# Altium schematic symbol library WE-PD.SchLib: 360 symbols (part 4 of 7)
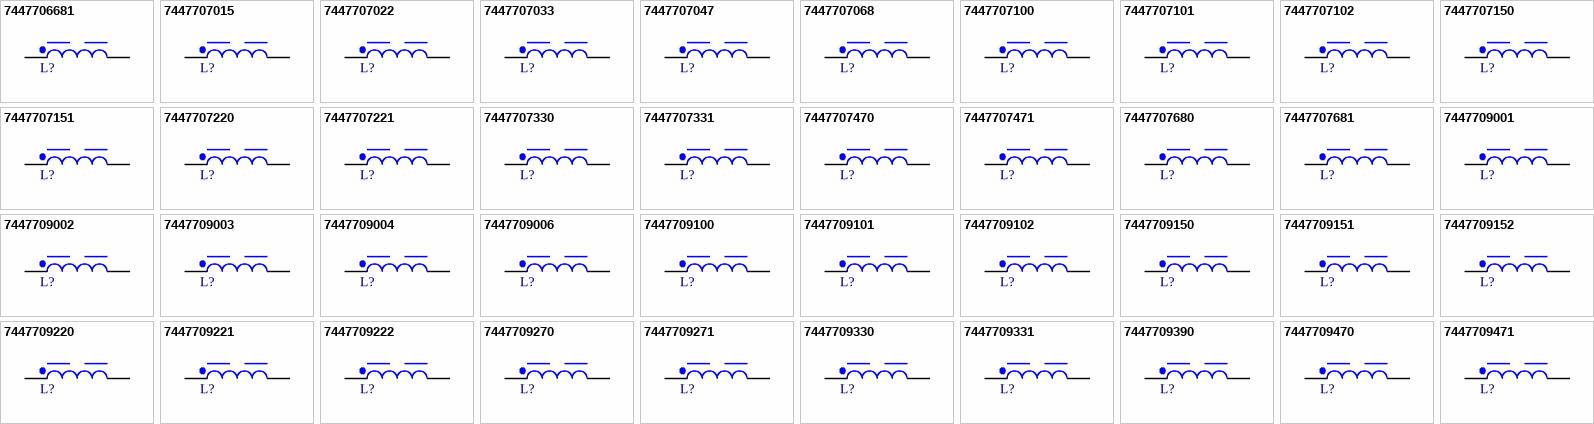
[diagram p11: symbols 7447706681 to 7447709471]

## 7447707101
designator L?, comment 100uH, 2.1A  (value not drawn)
WE-PD SMT Power Inductor, size 1280P, 100uH, 2.1A, 120mOhm; Manufacturer Part Number: 7447707101; Manufacturer: Wurth Elektronik; DC Resistance: 105mOhm; Saturation Current: 3.5A; Self Resonant Frequency: 4.3MHz; Type: Performance; Category: Power Inductors; Match Code: WE-PD; ComponentLink1Description: Website Link; ComponentLink1URL: https://www.we-online.com/redexpert/article/7447707101?ad; ComponentLink2Description: Datasheet Link; ComponentLink2URL: https://www.we-online.com/redexpert/spec/7447707101?ad; Mount: Surface Mount; Operating Temperature Max: 150°C; Operating Temperature Min: -40°C; Packaging: Tape and Reel; Case/Size Code: 1280P; Length: 12mm; Width: 12mm; Height: 8mm; DC Resistance Max: 120mOhm; Inductance: 100uH; Rated Current: 2.1A
footprint WE-PD_1280P
simulation model 1280_7447707101_100u
pins: 1, 2

## 7447707102
designator L?, comment 1000uH, 0.66A  (value not drawn)
WE-PD SMT Power Inductor, size 1280P, 1000uH, 0.66A, 1090mOhm; Manufacturer Part Number: 7447707102; Manufacturer: Wurth Elektronik; DC Resistance: 985mOhm; Saturation Current: 1.1A; Self Resonant Frequency: 1.2MHz; Type: Performance; Category: Power Inductors; Match Code: WE-PD; ComponentLink1Description: Website Link; ComponentLink1URL: https://www.we-online.com/redexpert/article/7447707102?ad; ComponentLink2Description: Datasheet Link; ComponentLink2URL: https://www.we-online.com/redexpert/spec/7447707102?ad; Mount: Surface Mount; Operating Temperature Max: 150°C; Operating Temperature Min: -40°C; Packaging: Tape and Reel; Case/Size Code: 1280P; Length: 12mm; Width: 12mm; Height: 8mm; DC Resistance Max: 1090mOhm; Inductance: 1000uH; Rated Current: 0.66A
footprint WE-PD_1280P
simulation model 1280_7447707102_1000u
pins: 1, 2

## 7447707150
designator L?, comment 15uH, 4.7A  (value not drawn)
WE-PD SMT Power Inductor, size 1280P, 15uH, 4.7A, 26.5mOhm; Manufacturer Part Number: 7447707150; Manufacturer: Wurth Elektronik; DC Resistance: 23mOhm; Saturation Current: 9A; Self Resonant Frequency: 13.2MHz; Type: Performance; Category: Power Inductors; Match Code: WE-PD; ComponentLink1Description: Website Link; ComponentLink1URL: https://www.we-online.com/redexpert/article/7447707150?ad; ComponentLink2Description: Datasheet Link; ComponentLink2URL: https://www.we-online.com/redexpert/spec/7447707150?ad; Mount: Surface Mount; Operating Temperature Max: 150°C; Operating Temperature Min: -40°C; Packaging: Tape and Reel; Case/Size Code: 1280P; Length: 12mm; Width: 12mm; Height: 8mm; DC Resistance Max: 26.5mOhm; Inductance: 15uH; Rated Current: 4.7A
footprint WE-PD_1280P
simulation model 1280_7447707150_15u
pins: 1, 2

## 7447707151
designator L?, comment 150uH, 1.65A  (value not drawn)
WE-PD SMT Power Inductor, size 1280P, 150uH, 1.65A, 190mOhm; Manufacturer Part Number: 7447707151; Manufacturer: Wurth Elektronik; DC Resistance: 165mOhm; Saturation Current: 2.8A; Self Resonant Frequency: 3.5MHz; Type: Performance; Category: Power Inductors; Match Code: WE-PD; ComponentLink1Description: Website Link; ComponentLink1URL: https://www.we-online.com/redexpert/article/7447707151?ad; ComponentLink2Description: Datasheet Link; ComponentLink2URL: https://www.we-online.com/redexpert/spec/7447707151?ad; Mount: Surface Mount; Operating Temperature Max: 150°C; Operating Temperature Min: -40°C; Packaging: Tape and Reel; Case/Size Code: 1280P; Length: 12mm; Width: 12mm; Height: 8mm; DC Resistance Max: 190mOhm; Inductance: 150uH; Rated Current: 1.65A
footprint WE-PD_1280P
simulation model 1280_7447707151_150u
pins: 1, 2

## 7447707220
designator L?, comment 22uH, 4A  (value not drawn)
WE-PD SMT Power Inductor, size 1280P, 22uH, 4A, 36mOhm; Manufacturer Part Number: 7447707220; Manufacturer: Wurth Elektronik; DC Resistance: 31.5mOhm; Saturation Current: 7.4A; Self Resonant Frequency: 10.2MHz; Type: Performance; Category: Power Inductors; Match Code: WE-PD; ComponentLink1Description: Website Link; ComponentLink1URL: https://www.we-online.com/redexpert/article/7447707220?ad; ComponentLink2Description: Datasheet Link; ComponentLink2URL: https://www.we-online.com/redexpert/spec/7447707220?ad; Mount: Surface Mount; Operating Temperature Max: 150°C; Operating Temperature Min: -40°C; Packaging: Tape and Reel; Case/Size Code: 1280P; Length: 12mm; Width: 12mm; Height: 8mm; DC Resistance Max: 36mOhm; Inductance: 22uH; Rated Current: 4A
footprint WE-PD_1280P
simulation model 1280_7447707220_22u
pins: 1, 2

## 7447707221
designator L?, comment 220uH, 1.35A  (value not drawn)
WE-PD SMT Power Inductor, size 1280P, 220uH, 1.35A, 265mOhm; Manufacturer Part Number: 7447707221; Manufacturer: Wurth Elektronik; DC Resistance: 240mOhm; Saturation Current: 2.35A; Self Resonant Frequency: 2.9MHz; Type: Performance; Category: Power Inductors; Match Code: WE-PD; ComponentLink1Description: Website Link; ComponentLink1URL: https://www.we-online.com/redexpert/article/7447707221?ad; ComponentLink2Description: Datasheet Link; ComponentLink2URL: https://www.we-online.com/redexpert/spec/7447707221?ad; Mount: Surface Mount; Operating Temperature Max: 150°C; Operating Temperature Min: -40°C; Packaging: Tape and Reel; Case/Size Code: 1280P; Length: 12mm; Width: 12mm; Height: 8mm; DC Resistance Max: 265mOhm; Inductance: 220uH; Rated Current: 1.35A
footprint WE-PD_1280P
simulation model 1280_7447707221_220u
pins: 1, 2

## 7447707330
designator L?, comment 33uH, 3.15A  (value not drawn)
WE-PD SMT Power Inductor, size 1280P, 33uH, 3.15A, 53mOhm; Manufacturer Part Number: 7447707330; Manufacturer: Wurth Elektronik; DC Resistance: 46.5mOhm; Saturation Current: 6.1A; Self Resonant Frequency: 8.3MHz; Type: Performance; Category: Power Inductors; Match Code: WE-PD; ComponentLink1Description: Website Link; ComponentLink1URL: https://www.we-online.com/redexpert/article/7447707330?ad; ComponentLink2Description: Datasheet Link; ComponentLink2URL: https://www.we-online.com/redexpert/spec/7447707330?ad; Mount: Surface Mount; Operating Temperature Max: 150°C; Operating Temperature Min: -40°C; Packaging: Tape and Reel; Case/Size Code: 1280P; Length: 12mm; Width: 12mm; Height: 8mm; DC Resistance Max: 53mOhm; Inductance: 33uH; Rated Current: 3.15A
footprint WE-PD_1280P
simulation model 1280_7447707330_33u
pins: 1, 2

## 7447707331
designator L?, comment 330uH, 1.08A  (value not drawn)
WE-PD SMT Power Inductor, size 1280P, 330uH, 1.08A, 410mOhm; Manufacturer Part Number: 7447707331; Manufacturer: Wurth Elektronik; DC Resistance: 370mOhm; Saturation Current: 1.9A; Self Resonant Frequency: 2.1MHz; Type: Performance; Category: Power Inductors; Match Code: WE-PD; ComponentLink1Description: Website Link; ComponentLink1URL: https://www.we-online.com/redexpert/article/7447707331?ad; ComponentLink2Description: Datasheet Link; ComponentLink2URL: https://www.we-online.com/redexpert/spec/7447707331?ad; Mount: Surface Mount; Operating Temperature Max: 150°C; Operating Temperature Min: -40°C; Packaging: Tape and Reel; Case/Size Code: 1280P; Length: 12mm; Width: 12mm; Height: 8mm; DC Resistance Max: 410mOhm; Inductance: 330uH; Rated Current: 1.08A
footprint WE-PD_1280P
simulation model 1280_7447707331_330u
pins: 1, 2

## 7447707470
designator L?, comment 47uH, 2.9A  (value not drawn)
WE-PD SMT Power Inductor, size 1280P, 47uH, 2.9A, 63mOhm; Manufacturer Part Number: 7447707470; Manufacturer: Wurth Elektronik; DC Resistance: 55mOhm; Saturation Current: 5.1A; Self Resonant Frequency: 7.2MHz; Type: Performance; Category: Power Inductors; Match Code: WE-PD; ComponentLink1Description: Website Link; ComponentLink1URL: https://www.we-online.com/redexpert/article/7447707470?ad; ComponentLink2Description: Datasheet Link; ComponentLink2URL: https://www.we-online.com/redexpert/spec/7447707470?ad; Mount: Surface Mount; Operating Temperature Max: 150°C; Operating Temperature Min: -40°C; Packaging: Tape and Reel; Case/Size Code: 1280P; Length: 12mm; Width: 12mm; Height: 8mm; DC Resistance Max: 63mOhm; Inductance: 47uH; Rated Current: 2.9A
footprint WE-PD_1280P
simulation model 1280_7447707470_47u
pins: 1, 2

## 7447707471
designator L?, comment 470uH, 0.93A  (value not drawn)
WE-PD SMT Power Inductor, size 1280P, 470uH, 0.93A, 540mOhm; Manufacturer Part Number: 7447707471; Manufacturer: Wurth Elektronik; DC Resistance: 490mOhm; Saturation Current: 1.6A; Self Resonant Frequency: 1.9MHz; Type: Performance; Category: Power Inductors; Match Code: WE-PD; ComponentLink1Description: Website Link; ComponentLink1URL: https://www.we-online.com/redexpert/article/7447707471?ad; ComponentLink2Description: Datasheet Link; ComponentLink2URL: https://www.we-online.com/redexpert/spec/7447707471?ad; Mount: Surface Mount; Operating Temperature Max: 150°C; Operating Temperature Min: -40°C; Packaging: Tape and Reel; Case/Size Code: 1280P; Length: 12mm; Width: 12mm; Height: 8mm; DC Resistance Max: 540mOhm; Inductance: 470uH; Rated Current: 0.93A
footprint WE-PD_1280P
simulation model 1280_7447707471_470u
pins: 1, 2

## 7447707680
designator L?, comment 68uH, 2.45A  (value not drawn)
WE-PD SMT Power Inductor, size 1280P, 68uH, 2.45A, 90mOhm; Manufacturer Part Number: 7447707680; Manufacturer: Wurth Elektronik; DC Resistance: 78mOhm; Saturation Current: 4.2A; Self Resonant Frequency: 5.5MHz; Type: Performance; Category: Power Inductors; Match Code: WE-PD; ComponentLink1Description: Website Link; ComponentLink1URL: https://www.we-online.com/redexpert/article/7447707680?ad; ComponentLink2Description: Datasheet Link; ComponentLink2URL: https://www.we-online.com/redexpert/spec/7447707680?ad; Mount: Surface Mount; Operating Temperature Max: 150°C; Operating Temperature Min: -40°C; Packaging: Tape and Reel; Case/Size Code: 1280P; Length: 12mm; Width: 12mm; Height: 8mm; DC Resistance Max: 90mOhm; Inductance: 68uH; Rated Current: 2.45A
footprint WE-PD_1280P
simulation model 1280_7447707680_68u
pins: 1, 2

## 7447707681
designator L?, comment 680uH, 0.78A  (value not drawn)
WE-PD SMT Power Inductor, size 1280P, 680uH, 0.78A, 770mOhm; Manufacturer Part Number: 7447707681; Manufacturer: Wurth Elektronik; DC Resistance: 700mOhm; Saturation Current: 1.3A; Self Resonant Frequency: 1.5MHz; Type: Performance; Category: Power Inductors; Match Code: WE-PD; ComponentLink1Description: Website Link; ComponentLink1URL: https://www.we-online.com/redexpert/article/7447707681?ad; ComponentLink2Description: Datasheet Link; ComponentLink2URL: https://www.we-online.com/redexpert/spec/7447707681?ad; Mount: Surface Mount; Operating Temperature Max: 150°C; Operating Temperature Min: -40°C; Packaging: Tape and Reel; Case/Size Code: 1280P; Length: 12mm; Width: 12mm; Height: 8mm; DC Resistance Max: 770mOhm; Inductance: 680uH; Rated Current: 0.78A
footprint WE-PD_1280P
simulation model 1280_7447707681_680u
pins: 1, 2

## 7447709001
designator L?, comment 1uH, 13A  (value not drawn)
WE-PD SMT Power Inductor, size 1210, 1uH, 13A, 6mOhm; Manufacturer Part Number: 7447709001; Manufacturer: Wurth Elektronik; Case/Size Code: 1210; DC Resistance: 4mOhm; Saturation Current: 25A; Self Resonant Frequency: 120MHz; Type: Standard; Category: Power Inductors; Match Code: WE-PD; ComponentLink1Description: Website Link; ComponentLink1URL: https://www.we-online.com/redexpert/article/7447709001?ad; ComponentLink2Description: Datasheet Link; ComponentLink2URL: https://www.we-online.com/redexpert/spec/7447709001?ad; Mount: Surface Mount; Operating Temperature Max: 125°C; Operating Temperature Min: -40°C; Packaging: Tape and Reel; Length: 12mm; Width: 12mm; Height: 10mm; DC Resistance Max: 6mOhm; Inductance: 1uH; Rated Current: 13A
footprint WE-PD_1210
simulation model 1210_7447709001_1u
pins: 1, 2

## 7447709002
designator L?, comment 2.2uH, 11.5A  (value not drawn)
WE-PD SMT Power Inductor, size 1210, 2.2uH, 11.5A, 6mOhm; Manufacturer Part Number: 7447709002; Manufacturer: Wurth Elektronik; Case/Size Code: 1210; DC Resistance: 5mOhm; Saturation Current: 20A; Self Resonant Frequency: 65MHz; Type: Standard; Category: Power Inductors; Match Code: WE-PD; ComponentLink1Description: Website Link; ComponentLink1URL: https://www.we-online.com/redexpert/article/7447709002?ad; ComponentLink2Description: Datasheet Link; ComponentLink2URL: https://www.we-online.com/redexpert/spec/7447709002?ad; Mount: Surface Mount; Operating Temperature Max: 125°C; Operating Temperature Min: -40°C; Packaging: Tape and Reel; Length: 12mm; Width: 12mm; Height: 10mm; DC Resistance Max: 6mOhm; Inductance: 2.2uH; Rated Current: 11.5A
footprint WE-PD_1210
simulation model 1210_7447709002_2.2u
pins: 1, 2

## 7447709003
designator L?, comment 3.5uH, 11A  (value not drawn)
WE-PD SMT Power Inductor, size 1210, 3.5uH, 11A, 9mOhm; Manufacturer Part Number: 7447709003; Manufacturer: Wurth Elektronik; Case/Size Code: 1210; DC Resistance: 6mOhm; Saturation Current: 16.5A; Self Resonant Frequency: 45MHz; Type: Standard; Category: Power Inductors; Match Code: WE-PD; ComponentLink1Description: Website Link; ComponentLink1URL: https://www.we-online.com/redexpert/article/7447709003?ad; ComponentLink2Description: Datasheet Link; ComponentLink2URL: https://www.we-online.com/redexpert/spec/7447709003?ad; Mount: Surface Mount; Operating Temperature Max: 125°C; Operating Temperature Min: -40°C; Packaging: Tape and Reel; Length: 12mm; Width: 12mm; Height: 10mm; DC Resistance Max: 9mOhm; Inductance: 3.5uH; Rated Current: 11A
footprint WE-PD_1210
simulation model 1210_7447709003_3.5u
pins: 1, 2

## 7447709004
designator L?, comment 4.7uH, 9.3A  (value not drawn)
WE-PD SMT Power Inductor, size 1210, 4.7uH, 9.3A, 11mOhm; Manufacturer Part Number: 7447709004; Manufacturer: Wurth Elektronik; Case/Size Code: 1210; DC Resistance: 7mOhm; Saturation Current: 13A; Self Resonant Frequency: 38MHz; Type: Standard; Category: Power Inductors; Match Code: WE-PD; ComponentLink1Description: Website Link; ComponentLink1URL: https://www.we-online.com/redexpert/article/7447709004?ad; ComponentLink2Description: Datasheet Link; ComponentLink2URL: https://www.we-online.com/redexpert/spec/7447709004?ad; Mount: Surface Mount; Operating Temperature Max: 125°C; Operating Temperature Min: -40°C; Packaging: Tape and Reel; Length: 12mm; Width: 12mm; Height: 10mm; DC Resistance Max: 11mOhm; Inductance: 4.7uH; Rated Current: 9.3A
footprint WE-PD_1210
simulation model 1210_7447709004_4.7u
pins: 1, 2

## 7447709006
designator L?, comment 6.8uH, 8.4A  (value not drawn)
WE-PD SMT Power Inductor, size 1210, 6.8uH, 8.4A, 14mOhm; Manufacturer Part Number: 7447709006; Manufacturer: Wurth Elektronik; Case/Size Code: 1210; DC Resistance: 9mOhm; Saturation Current: 12.8A; Self Resonant Frequency: 23MHz; Type: Standard; Category: Power Inductors; Match Code: WE-PD; ComponentLink1Description: Website Link; ComponentLink1URL: https://www.we-online.com/redexpert/article/7447709006?ad; ComponentLink2Description: Datasheet Link; ComponentLink2URL: https://www.we-online.com/redexpert/spec/7447709006?ad; Mount: Surface Mount; Operating Temperature Max: 125°C; Operating Temperature Min: -40°C; Packaging: Tape and Reel; Length: 12mm; Width: 12mm; Height: 10mm; DC Resistance Max: 14mOhm; Inductance: 6.8uH; Rated Current: 8.4A
footprint WE-PD_1210
simulation model 1210_7447709006_6.8u
pins: 1, 2

## 7447709100
designator L?, comment 10uH, 7.1A  (value not drawn)
WE-PD SMT Power Inductor, size 1210, 10uH, 7.1A, 21mOhm; Manufacturer Part Number: 7447709100; Manufacturer: Wurth Elektronik; Case/Size Code: 1210; DC Resistance: 13mOhm; Saturation Current: 10.5A; Self Resonant Frequency: 21MHz; Type: Standard; Category: Power Inductors; Match Code: WE-PD; ComponentLink1Description: Website Link; ComponentLink1URL: https://www.we-online.com/redexpert/article/7447709100?ad; ComponentLink2Description: Datasheet Link; ComponentLink2URL: https://www.we-online.com/redexpert/spec/7447709100?ad; Mount: Surface Mount; Operating Temperature Max: 125°C; Operating Temperature Min: -40°C; Packaging: Tape and Reel; Length: 12mm; Width: 12mm; Height: 10mm; DC Resistance Max: 21mOhm; Inductance: 10uH; Rated Current: 7.1A
footprint WE-PD_1210
simulation model 1210_7447709100_10u
pins: 1, 2

## 7447709101
designator L?, comment 100uH, 2.5A  (value not drawn)
WE-PD SMT Power Inductor, size 1210, 100uH, 2.5A, 110mOhm; Manufacturer Part Number: 7447709101; Manufacturer: Wurth Elektronik; Case/Size Code: 1210; DC Resistance: 100mOhm; Saturation Current: 3.1A; Self Resonant Frequency: 4.3MHz; Type: Standard; Category: Power Inductors; Match Code: WE-PD; ComponentLink1Description: Website Link; ComponentLink1URL: https://www.we-online.com/redexpert/article/7447709101?ad; ComponentLink2Description: Datasheet Link; ComponentLink2URL: https://www.we-online.com/redexpert/spec/7447709101?ad; Mount: Surface Mount; Operating Temperature Max: 125°C; Operating Temperature Min: -40°C; Packaging: Tape and Reel; Length: 12mm; Width: 12mm; Height: 10mm; DC Resistance Max: 110mOhm; Inductance: 100uH; Rated Current: 2.5A
footprint WE-PD_1210
simulation model 1210_7447709101_100u
pins: 1, 2

## 7447709102
designator L?, comment 1000uH, 0.9A  (value not drawn)
WE-PD SMT Power Inductor, size 1210, 1000uH, 0.9A, 1200mOhm; Manufacturer Part Number: 7447709102; Manufacturer: Wurth Elektronik; Case/Size Code: 1210; DC Resistance: 930mOhm; Saturation Current: 1A; Self Resonant Frequency: 1MHz; Type: Standard; Category: Power Inductors; Match Code: WE-PD; ComponentLink1Description: Website Link; ComponentLink1URL: https://www.we-online.com/redexpert/article/7447709102?ad; ComponentLink2Description: Datasheet Link; ComponentLink2URL: https://www.we-online.com/redexpert/spec/7447709102?ad; Mount: Surface Mount; Operating Temperature Max: 125°C; Operating Temperature Min: -40°C; Packaging: Tape and Reel; Length: 12mm; Width: 12mm; Height: 10mm; DC Resistance Max: 1200mOhm; Inductance: 1000uH; Rated Current: 0.9A
footprint WE-PD_1210
simulation model 1210_7447709102_1000u
pins: 1, 2

## 7447709150
designator L?, comment 15uH, 6.5A  (value not drawn)
WE-PD SMT Power Inductor, size 1210, 15uH, 6.5A, 26mOhm; Manufacturer Part Number: 7447709150; Manufacturer: Wurth Elektronik; Case/Size Code: 1210; DC Resistance: 21mOhm; Saturation Current: 8A; Self Resonant Frequency: 17MHz; Type: Standard; Category: Power Inductors; Match Code: WE-PD; ComponentLink1Description: Website Link; ComponentLink1URL: https://www.we-online.com/redexpert/article/7447709150?ad; ComponentLink2Description: Datasheet Link; ComponentLink2URL: https://www.we-online.com/redexpert/spec/7447709150?ad; Mount: Surface Mount; Operating Temperature Max: 125°C; Operating Temperature Min: -40°C; Packaging: Tape and Reel; Length: 12mm; Width: 12mm; Height: 10mm; DC Resistance Max: 26mOhm; Inductance: 15uH; Rated Current: 6.5A
footprint WE-PD_1210
simulation model 1210_7447709150_15u
pins: 1, 2

## 7447709151
designator L?, comment 150uH, 2.1A  (value not drawn)
WE-PD SMT Power Inductor, size 1210, 150uH, 2.1A, 200mOhm; Manufacturer Part Number: 7447709151; Manufacturer: Wurth Elektronik; Case/Size Code: 1210; DC Resistance: 151mOhm; Saturation Current: 2.7A; Self Resonant Frequency: 3.5MHz; Type: Standard; Category: Power Inductors; Match Code: WE-PD; ComponentLink1Description: Website Link; ComponentLink1URL: https://www.we-online.com/redexpert/article/7447709151?ad; ComponentLink2Description: Datasheet Link; ComponentLink2URL: https://www.we-online.com/redexpert/spec/7447709151?ad; Mount: Surface Mount; Operating Temperature Max: 125°C; Operating Temperature Min: -40°C; Packaging: Tape and Reel; Length: 12mm; Width: 12mm; Height: 10mm; DC Resistance Max: 200mOhm; Inductance: 150uH; Rated Current: 2.1A
footprint WE-PD_1210
simulation model 1210_7447709151_150u
pins: 1, 2

## 7447709152
designator L?, comment 1500uH, 0.8A  (value not drawn)
WE-PD SMT Power Inductor, size 1210, 1500uH, 0.8A, 2300mOhm; Manufacturer Part Number: 7447709152; Manufacturer: Wurth Elektronik; Case/Size Code: 1210; DC Resistance: 1800mOhm; Self Resonant Frequency: 0.9MHz; Type: Standard; Category: Power Inductors; Match Code: WE-PD; ComponentLink1Description: Website Link; ComponentLink1URL: https://www.we-online.com/redexpert/article/7447709152?ad; ComponentLink2Description: Datasheet Link; ComponentLink2URL: https://www.we-online.com/redexpert/spec/7447709152?ad; Mount: Surface Mount; Operating Temperature Max: 125°C; Operating Temperature Min: -40°C; Packaging: Tape and Reel; Length: 12mm; Width: 12mm; Height: 10mm; DC Resistance Max: 2300mOhm; Inductance: 1500uH; Rated Current: 0.8A; Saturation Current: 0.8A
footprint WE-PD_1210
simulation model 1210_7447709152_1500u
pins: 1, 2

## 7447709220
designator L?, comment 22uH, 5.3A  (value not drawn)
WE-PD SMT Power Inductor, size 1210, 22uH, 5.3A, 28mOhm; Manufacturer Part Number: 7447709220; Manufacturer: Wurth Elektronik; Case/Size Code: 1210; DC Resistance: 23mOhm; Saturation Current: 6.5A; Self Resonant Frequency: 10MHz; Type: Standard; Category: Power Inductors; Match Code: WE-PD; ComponentLink1Description: Website Link; ComponentLink1URL: https://www.we-online.com/redexpert/article/7447709220?ad; ComponentLink2Description: Datasheet Link; ComponentLink2URL: https://www.we-online.com/redexpert/spec/7447709220?ad; Mount: Surface Mount; Operating Temperature Max: 125°C; Operating Temperature Min: -40°C; Packaging: Tape and Reel; Length: 12mm; Width: 12mm; Height: 10mm; DC Resistance Max: 28mOhm; Inductance: 22uH; Rated Current: 5.3A
footprint WE-PD_1210
simulation model 1210_7447709220_22u
pins: 1, 2

## 7447709221
designator L?, comment 220uH, 1.8A  (value not drawn)
WE-PD SMT Power Inductor, size 1210, 220uH, 1.8A, 300mOhm; Manufacturer Part Number: 7447709221; Manufacturer: Wurth Elektronik; Case/Size Code: 1210; DC Resistance: 193mOhm; Saturation Current: 2.2A; Self Resonant Frequency: 2.7MHz; Type: Standard; Category: Power Inductors; Match Code: WE-PD; ComponentLink1Description: Website Link; ComponentLink1URL: https://www.we-online.com/redexpert/article/7447709221?ad; ComponentLink2Description: Datasheet Link; ComponentLink2URL: https://www.we-online.com/redexpert/spec/7447709221?ad; Mount: Surface Mount; Operating Temperature Max: 125°C; Operating Temperature Min: -40°C; Packaging: Tape and Reel; Length: 12mm; Width: 12mm; Height: 10mm; DC Resistance Max: 300mOhm; Inductance: 220uH; Rated Current: 1.8A
footprint WE-PD_1210
simulation model 1210_7447709221_220u
pins: 1, 2

## 7447709222
designator L?, comment 2200uH, 0.53A  (value not drawn)
WE-PD SMT Power Inductor, size 1210, 2200uH, 0.53A, 3750mOhm; Manufacturer Part Number: 7447709222; Manufacturer: Wurth Elektronik; Case/Size Code: 1210; DC Resistance: 3250mOhm; Saturation Current: 0.75A; Self Resonant Frequency: 0.66MHz; Type: Standard; Category: Power Inductors; Match Code: WE-PD; ComponentLink1Description: Website Link; ComponentLink1URL: https://www.we-online.com/redexpert/article/7447709222?ad; ComponentLink2Description: Datasheet Link; ComponentLink2URL: https://www.we-online.com/redexpert/spec/7447709222?ad; Mount: Surface Mount; Operating Temperature Max: 125°C; Operating Temperature Min: -40°C; Packaging: Tape and Reel; Length: 12mm; Width: 12mm; Height: 10mm; DC Resistance Max: 3750mOhm; Inductance: 2200uH; Rated Current: 0.53A
footprint WE-PD_1210
simulation model 1210_7447709222_2200u
pins: 1, 2

## 7447709270
designator L?, comment 27uH, 4.6A  (value not drawn)
WE-PD SMT Power Inductor, size 1210, 27uH, 4.6A, 40mOhm; Manufacturer Part Number: 7447709270; Manufacturer: Wurth Elektronik; Case/Size Code: 1210; DC Resistance: 30mOhm; Saturation Current: 5.8A; Self Resonant Frequency: 8MHz; Type: Standard; Category: Power Inductors; Match Code: WE-PD; ComponentLink1Description: Website Link; ComponentLink1URL: https://www.we-online.com/redexpert/article/7447709270?ad; ComponentLink2Description: Datasheet Link; ComponentLink2URL: https://www.we-online.com/redexpert/spec/7447709270?ad; Mount: Surface Mount; Operating Temperature Max: 125°C; Operating Temperature Min: -40°C; Packaging: Tape and Reel; Length: 12mm; Width: 12mm; Height: 10mm; DC Resistance Max: 40mOhm; Inductance: 27uH; Rated Current: 4.6A
footprint WE-PD_1210
simulation model 1210_7447709270_27u
pins: 1, 2

## 7447709271
designator L?, comment 270uH, 1.6A  (value not drawn)
WE-PD SMT Power Inductor, size 1210, 270uH, 1.6A, 330mOhm; Manufacturer Part Number: 7447709271; Manufacturer: Wurth Elektronik; Case/Size Code: 1210; DC Resistance: 248mOhm; Saturation Current: 2.1A; Self Resonant Frequency: 2.5MHz; Type: Standard; Category: Power Inductors; Match Code: WE-PD; ComponentLink1Description: Website Link; ComponentLink1URL: https://www.we-online.com/redexpert/article/7447709271?ad; ComponentLink2Description: Datasheet Link; ComponentLink2URL: https://www.we-online.com/redexpert/spec/7447709271?ad; Mount: Surface Mount; Operating Temperature Max: 125°C; Operating Temperature Min: -40°C; Packaging: Tape and Reel; Length: 12mm; Width: 12mm; Height: 10mm; DC Resistance Max: 330mOhm; Inductance: 270uH; Rated Current: 1.6A
footprint WE-PD_1210
simulation model 1210_7447709271_270u
pins: 1, 2

## 7447709330
designator L?, comment 33uH, 4.2A  (value not drawn)
WE-PD SMT Power Inductor, size 1210, 33uH, 4.2A, 45mOhm; Manufacturer Part Number: 7447709330; Manufacturer: Wurth Elektronik; Case/Size Code: 1210; DC Resistance: 37mOhm; Saturation Current: 5.5A; Self Resonant Frequency: 8.5MHz; Type: Standard; Category: Power Inductors; Match Code: WE-PD; ComponentLink1Description: Website Link; ComponentLink1URL: https://www.we-online.com/redexpert/article/7447709330?ad; ComponentLink2Description: Datasheet Link; ComponentLink2URL: https://www.we-online.com/redexpert/spec/7447709330?ad; Mount: Surface Mount; Operating Temperature Max: 125°C; Operating Temperature Min: -40°C; Packaging: Tape and Reel; Length: 12mm; Width: 12mm; Height: 10mm; DC Resistance Max: 45mOhm; Inductance: 33uH; Rated Current: 4.2A
footprint WE-PD_1210
simulation model 1210_7447709330_33u
pins: 1, 2

## 7447709331
designator L?, comment 330uH, 1.5A  (value not drawn)
WE-PD SMT Power Inductor, size 1210, 330uH, 1.5A, 430mOhm; Manufacturer Part Number: 7447709331; Manufacturer: Wurth Elektronik; Case/Size Code: 1210; DC Resistance: 363mOhm; Saturation Current: 1.7A; Self Resonant Frequency: 2MHz; Type: Standard; Category: Power Inductors; Match Code: WE-PD; ComponentLink1Description: Website Link; ComponentLink1URL: https://www.we-online.com/redexpert/article/7447709331?ad; ComponentLink2Description: Datasheet Link; ComponentLink2URL: https://www.we-online.com/redexpert/spec/7447709331?ad; Mount: Surface Mount; Operating Temperature Max: 125°C; Operating Temperature Min: -40°C; Packaging: Tape and Reel; Length: 12mm; Width: 12mm; Height: 10mm; DC Resistance Max: 430mOhm; Inductance: 330uH; Rated Current: 1.5A
footprint WE-PD_1210
simulation model 1210_7447709331_330u
pins: 1, 2

## 7447709390
designator L?, comment 39uH, 4.1A  (value not drawn)
WE-PD SMT Power Inductor, size 1210, 39uH, 4.1A, 56mOhm; Manufacturer Part Number: 7447709390; Manufacturer: Wurth Elektronik; Case/Size Code: 1210; DC Resistance: 44mOhm; Saturation Current: 5A; Self Resonant Frequency: 6MHz; Type: Standard; Category: Power Inductors; Match Code: WE-PD; ComponentLink1Description: Website Link; ComponentLink1URL: https://www.we-online.com/redexpert/article/7447709390?ad; ComponentLink2Description: Datasheet Link; ComponentLink2URL: https://www.we-online.com/redexpert/spec/7447709390?ad; Mount: Surface Mount; Operating Temperature Max: 125°C; Operating Temperature Min: -40°C; Packaging: Tape and Reel; Length: 12mm; Width: 12mm; Height: 10mm; DC Resistance Max: 56mOhm; Inductance: 39uH; Rated Current: 4.1A
footprint WE-PD_1210
simulation model 1210_7447709390_39u
pins: 1, 2

## 7447709470
designator L?, comment 47uH, 3.8A  (value not drawn)
WE-PD SMT Power Inductor, size 1210, 47uH, 3.8A, 60mOhm; Manufacturer Part Number: 7447709470; Manufacturer: Wurth Elektronik; Case/Size Code: 1210; DC Resistance: 46mOhm; Saturation Current: 4.5A; Self Resonant Frequency: 6.5MHz; Type: Standard; Category: Power Inductors; Match Code: WE-PD; ComponentLink1Description: Website Link; ComponentLink1URL: https://www.we-online.com/redexpert/article/7447709470?ad; ComponentLink2Description: Datasheet Link; ComponentLink2URL: https://www.we-online.com/redexpert/spec/7447709470?ad; Mount: Surface Mount; Operating Temperature Max: 125°C; Operating Temperature Min: -40°C; Packaging: Tape and Reel; Length: 12mm; Width: 12mm; Height: 10mm; DC Resistance Max: 60mOhm; Inductance: 47uH; Rated Current: 3.8A
footprint WE-PD_1210
simulation model 1210_7447709470_47u
pins: 1, 2

## 7447709471
designator L?, comment 470uH, 1.4A  (value not drawn)
WE-PD SMT Power Inductor, size 1210, 470uH, 1.4A, 560mOhm; Manufacturer Part Number: 7447709471; Manufacturer: Wurth Elektronik; Case/Size Code: 1210; DC Resistance: 437mOhm; Saturation Current: 1.5A; Self Resonant Frequency: 1.8MHz; Type: Standard; Category: Power Inductors; Match Code: WE-PD; ComponentLink1Description: Website Link; ComponentLink1URL: https://www.we-online.com/redexpert/article/7447709471?ad; ComponentLink2Description: Datasheet Link; ComponentLink2URL: https://www.we-online.com/redexpert/spec/7447709471?ad; Mount: Surface Mount; Operating Temperature Max: 125°C; Operating Temperature Min: -40°C; Packaging: Tape and Reel; Length: 12mm; Width: 12mm; Height: 10mm; DC Resistance Max: 560mOhm; Inductance: 470uH; Rated Current: 1.4A
footprint WE-PD_1210
simulation model 1210_7447709471_470u
pins: 1, 2

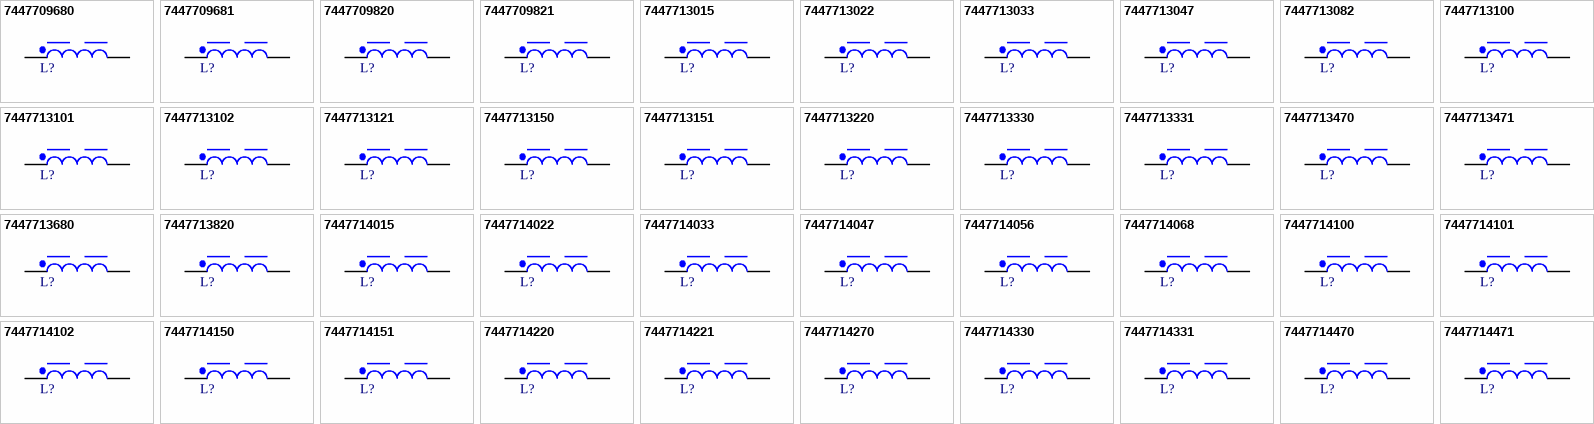
[diagram p5: symbols 7447709680 to 7447714471]

## 7447709680
designator L?, comment 68uH, 3.2A  (value not drawn)
WE-PD SMT Power Inductor, size 1210, 68uH, 3.2A, 89mOhm; Manufacturer Part Number: 7447709680; Manufacturer: Wurth Elektronik; Case/Size Code: 1210; DC Resistance: 69mOhm; Saturation Current: 3.6A; Self Resonant Frequency: 5.5MHz; Type: Standard; Category: Power Inductors; Match Code: WE-PD; ComponentLink1Description: Website Link; ComponentLink1URL: https://www.we-online.com/redexpert/article/7447709680?ad; ComponentLink2Description: Datasheet Link; ComponentLink2URL: https://www.we-online.com/redexpert/spec/7447709680?ad; Mount: Surface Mount; Operating Temperature Max: 125°C; Operating Temperature Min: -40°C; Packaging: Tape and Reel; Length: 12mm; Width: 12mm; Height: 10mm; DC Resistance Max: 89mOhm; Inductance: 68uH; Rated Current: 3.2A
footprint WE-PD_1210
simulation model 1210_7447709680_68u
pins: 1, 2

## 7447709681
designator L?, comment 680uH, 1.1A  (value not drawn)
WE-PD SMT Power Inductor, size 1210, 680uH, 1.1A, 825mOhm; Manufacturer Part Number: 7447709681; Manufacturer: Wurth Elektronik; Case/Size Code: 1210; DC Resistance: 660mOhm; Saturation Current: 1.3A; Self Resonant Frequency: 1.5MHz; Type: Standard; Category: Power Inductors; Match Code: WE-PD; ComponentLink1Description: Website Link; ComponentLink1URL: https://www.we-online.com/redexpert/article/7447709681?ad; ComponentLink2Description: Datasheet Link; ComponentLink2URL: https://www.we-online.com/redexpert/spec/7447709681?ad; Mount: Surface Mount; Operating Temperature Max: 125°C; Operating Temperature Min: -40°C; Packaging: Tape and Reel; Length: 12mm; Width: 12mm; Height: 10mm; DC Resistance Max: 825mOhm; Inductance: 680uH; Rated Current: 1.1A
footprint WE-PD_1210
simulation model 1210_7447709681_680u
pins: 1, 2

## 7447709820
designator L?, comment 82uH, 2.75A  (value not drawn)
WE-PD SMT Power Inductor, size 1210, 82uH, 2.75A, 105mOhm; Manufacturer Part Number: 7447709820; Manufacturer: Wurth Elektronik; Case/Size Code: 1210; DC Resistance: 90.5mOhm; Saturation Current: 3.4A; Self Resonant Frequency: 4.5MHz; Type: Standard; Category: Power Inductors; Match Code: WE-PD; ComponentLink1Description: Website Link; ComponentLink1URL: https://www.we-online.com/redexpert/article/7447709820?ad; ComponentLink2Description: Datasheet Link; ComponentLink2URL: https://www.we-online.com/redexpert/spec/7447709820?ad; Mount: Surface Mount; Operating Temperature Max: 125°C; Operating Temperature Min: -40°C; Packaging: Tape and Reel; Length: 12mm; Width: 12mm; Height: 10mm; DC Resistance Max: 105mOhm; Inductance: 82uH; Rated Current: 2.75A
footprint WE-PD_1210
simulation model 1210_7447709820_82u
pins: 1, 2

## 7447709821
designator L?, comment 820uH, 0.95A  (value not drawn)
WE-PD SMT Power Inductor, size 1210, 820uH, 0.95A, 1000mOhm; Manufacturer Part Number: 7447709821; Manufacturer: Wurth Elektronik; Case/Size Code: 1210; DC Resistance: 815mOhm; Saturation Current: 1.1A; Self Resonant Frequency: 1.2MHz; Type: Standard; Category: Power Inductors; Match Code: WE-PD; ComponentLink1Description: Website Link; ComponentLink1URL: https://www.we-online.com/redexpert/article/7447709821?ad; ComponentLink2Description: Datasheet Link; ComponentLink2URL: https://www.we-online.com/redexpert/spec/7447709821?ad; Mount: Surface Mount; Operating Temperature Max: 125°C; Operating Temperature Min: -40°C; Packaging: Tape and Reel; Length: 12mm; Width: 12mm; Height: 10mm; DC Resistance Max: 1000mOhm; Inductance: 820uH; Rated Current: 0.95A
footprint WE-PD_1210
simulation model 1210_7447709821_820u
pins: 1, 2

## 7447713015
designator L?, comment 1.5uH, 6.2A  (value not drawn)
WE-PD SMT Power Inductor, size 1030P, 1.5uH, 6.2A, 16mOhm; Manufacturer Part Number: 7447713015; Manufacturer: Wurth Elektronik; DC Resistance: 13.7mOhm; Saturation Current: 9.5A; Self Resonant Frequency: 75MHz; Type: Performance; Category: Power Inductors; Match Code: WE-PD; ComponentLink1Description: Website Link; ComponentLink1URL: https://www.we-online.com/redexpert/article/7447713015?ad; ComponentLink2Description: Datasheet Link; ComponentLink2URL: https://www.we-online.com/redexpert/spec/7447713015?ad; Mount: Surface Mount; Operating Temperature Max: 150°C; Operating Temperature Min: -40°C; Packaging: Tape and Reel; Case/Size Code: 1030P; Length: 10mm; Width: 10mm; Height: 3mm; DC Resistance Max: 16mOhm; Inductance: 1.5uH; Rated Current: 6.2A
footprint WE-PD_1030P
simulation model 1030_7447713015_1.5u
pins: 1, 2

## 7447713022
designator L?, comment 2.2uH, 5.1A  (value not drawn)
WE-PD SMT Power Inductor, size 1030P, 2.2uH, 5.1A, 20mOhm; Manufacturer Part Number: 7447713022; Manufacturer: Wurth Elektronik; DC Resistance: 16.8mOhm; Saturation Current: 8.5A; Self Resonant Frequency: 71MHz; Type: Performance; Category: Power Inductors; Match Code: WE-PD; ComponentLink1Description: Website Link; ComponentLink1URL: https://www.we-online.com/redexpert/article/7447713022?ad; ComponentLink2Description: Datasheet Link; ComponentLink2URL: https://www.we-online.com/redexpert/spec/7447713022?ad; Mount: Surface Mount; Operating Temperature Max: 150°C; Operating Temperature Min: -40°C; Packaging: Tape and Reel; Case/Size Code: 1030P; Length: 10mm; Width: 10mm; Height: 3mm; DC Resistance Max: 20mOhm; Inductance: 2.2uH; Rated Current: 5.1A
footprint WE-PD_1030P
simulation model 1030_7447713022_2.2u
pins: 1, 2

## 7447713033
designator L?, comment 3.3uH, 4.6A  (value not drawn)
WE-PD SMT Power Inductor, size 1030P, 3.3uH, 4.6A, 24mOhm; Manufacturer Part Number: 7447713033; Manufacturer: Wurth Elektronik; DC Resistance: 20.4mOhm; Saturation Current: 7.2A; Self Resonant Frequency: 50MHz; Type: Performance; Category: Power Inductors; Match Code: WE-PD; ComponentLink1Description: Website Link; ComponentLink1URL: https://www.we-online.com/redexpert/article/7447713033?ad; ComponentLink2Description: Datasheet Link; ComponentLink2URL: https://www.we-online.com/redexpert/spec/7447713033?ad; Mount: Surface Mount; Operating Temperature Max: 150°C; Operating Temperature Min: -40°C; Packaging: Tape and Reel; Case/Size Code: 1030P; Length: 10mm; Width: 10mm; Height: 3mm; DC Resistance Max: 24mOhm; Inductance: 3.3uH; Rated Current: 4.6A
footprint WE-PD_1030P
simulation model 1030_7447713033_3.3u
pins: 1, 2

## 7447713047
designator L?, comment 4.7uH, 4A  (value not drawn)
WE-PD SMT Power Inductor, size 1030P, 4.7uH, 4A, 31mOhm; Manufacturer Part Number: 7447713047; Manufacturer: Wurth Elektronik; DC Resistance: 26mOhm; Saturation Current: 6A; Self Resonant Frequency: 42MHz; Type: Performance; Category: Power Inductors; Match Code: WE-PD; ComponentLink1Description: Website Link; ComponentLink1URL: https://www.we-online.com/redexpert/article/7447713047?ad; ComponentLink2Description: Datasheet Link; ComponentLink2URL: https://www.we-online.com/redexpert/spec/7447713047?ad; Mount: Surface Mount; Operating Temperature Max: 150°C; Operating Temperature Min: -40°C; Packaging: Tape and Reel; Case/Size Code: 1030P; Length: 10mm; Width: 10mm; Height: 3mm; DC Resistance Max: 31mOhm; Inductance: 4.7uH; Rated Current: 4A
footprint WE-PD_1030P
simulation model 1030_7447713047_4.7u
pins: 1, 2

## 7447713082
designator L?, comment 8.2uH, 3A  (value not drawn)
WE-PD SMT Power Inductor, size 1030P, 8.2uH, 3A, 49mOhm; Manufacturer Part Number: 7447713082; Manufacturer: Wurth Elektronik; DC Resistance: 41mOhm; Saturation Current: 4.7A; Self Resonant Frequency: 30MHz; Type: Performance; Category: Power Inductors; Match Code: WE-PD; ComponentLink1Description: Website Link; ComponentLink1URL: https://www.we-online.com/redexpert/article/7447713082?ad; ComponentLink2Description: Datasheet Link; ComponentLink2URL: https://www.we-online.com/redexpert/spec/7447713082?ad; Mount: Surface Mount; Operating Temperature Max: 150°C; Operating Temperature Min: -40°C; Packaging: Tape and Reel; Case/Size Code: 1030P; Length: 10mm; Width: 10mm; Height: 3mm; DC Resistance Max: 49mOhm; Inductance: 8.2uH; Rated Current: 3A
footprint WE-PD_1030P
simulation model 1030_7447713082_8.2u
pins: 1, 2

## 7447713100
designator L?, comment 10uH, 2.6A  (value not drawn)
WE-PD SMT Power Inductor, size 1030P, 10uH, 2.6A, 62mOhm; Manufacturer Part Number: 7447713100; Manufacturer: Wurth Elektronik; DC Resistance: 52mOhm; Saturation Current: 4.1A; Self Resonant Frequency: 25MHz; Type: Performance; Category: Power Inductors; Match Code: WE-PD; ComponentLink1Description: Website Link; ComponentLink1URL: https://www.we-online.com/redexpert/article/7447713100?ad; ComponentLink2Description: Datasheet Link; ComponentLink2URL: https://www.we-online.com/redexpert/spec/7447713100?ad; Mount: Surface Mount; Operating Temperature Max: 150°C; Operating Temperature Min: -40°C; Packaging: Tape and Reel; Case/Size Code: 1030P; Length: 10mm; Width: 10mm; Height: 3mm; DC Resistance Max: 62mOhm; Inductance: 10uH; Rated Current: 2.6A
footprint WE-PD_1030P
simulation model 1030_7447713100_10u
pins: 1, 2

## 7447713101
designator L?, comment 100uH, 0.9A  (value not drawn)
WE-PD SMT Power Inductor, size 1030P, 100uH, 0.9A, 478mOhm; Manufacturer Part Number: 7447713101; Manufacturer: Wurth Elektronik; DC Resistance: 398mOhm; Saturation Current: 1.4A; Self Resonant Frequency: 7.7MHz; Type: Performance; Category: Power Inductors; Match Code: WE-PD; ComponentLink1Description: Website Link; ComponentLink1URL: https://www.we-online.com/redexpert/article/7447713101?ad; ComponentLink2Description: Datasheet Link; ComponentLink2URL: https://www.we-online.com/redexpert/spec/7447713101?ad; Mount: Surface Mount; Operating Temperature Max: 150°C; Operating Temperature Min: -40°C; Packaging: Tape and Reel; Case/Size Code: 1030P; Length: 10mm; Width: 10mm; Height: 3mm; DC Resistance Max: 478mOhm; Inductance: 100uH; Rated Current: 0.9A
footprint WE-PD_1030P
simulation model 1030_7447713101_100u
pins: 1, 2

## 7447713102
designator L?, comment 1000uH, 0.3A  (value not drawn)
WE-PD SMT Power Inductor, size 1030P, 1000uH, 0.3A, 4600mOhm; Manufacturer Part Number: 7447713102; Manufacturer: Wurth Elektronik; DC Resistance: 4000mOhm; Saturation Current: 0.45A; Self Resonant Frequency: 2.3MHz; Type: Performance; Category: Power Inductors; Match Code: WE-PD; ComponentLink1Description: Website Link; ComponentLink1URL: https://www.we-online.com/redexpert/article/7447713102?ad; ComponentLink2Description: Datasheet Link; ComponentLink2URL: https://www.we-online.com/redexpert/spec/7447713102?ad; Mount: Surface Mount; Operating Temperature Max: 150°C; Operating Temperature Min: -40°C; Packaging: Tape and Reel; Case/Size Code: 1030P; Length: 10mm; Width: 10mm; Height: 3mm; DC Resistance Max: 4600mOhm; Inductance: 1000uH; Rated Current: 0.3A
footprint WE-PD_1030P
simulation model 1030_7447713102_1000u
pins: 1, 2

## 7447713121
designator L?, comment 120uH, 0.85A  (value not drawn)
WE-PD SMT Power Inductor, size 1030P, 120uH, 0.85A, 598mOhm; Manufacturer Part Number: 7447713121; Manufacturer: Wurth Elektronik; DC Resistance: 498mOhm; Saturation Current: 1.25A; Self Resonant Frequency: 7MHz; Type: Performance; Category: Power Inductors; Match Code: WE-PD; ComponentLink1Description: Website Link; ComponentLink1URL: https://www.we-online.com/redexpert/article/7447713121?ad; ComponentLink2Description: Datasheet Link; ComponentLink2URL: https://www.we-online.com/redexpert/spec/7447713121?ad; Mount: Surface Mount; Operating Temperature Max: 150°C; Operating Temperature Min: -40°C; Packaging: Tape and Reel; Case/Size Code: 1030P; Length: 10mm; Width: 10mm; Height: 3mm; DC Resistance Max: 598mOhm; Inductance: 120uH; Rated Current: 0.85A
footprint WE-PD_1030P
simulation model 1030_7447713121_120u
pins: 1, 2

## 7447713150
designator L?, comment 15uH, 2.2A  (value not drawn)
WE-PD SMT Power Inductor, size 1030P, 15uH, 2.2A, 89mOhm; Manufacturer Part Number: 7447713150; Manufacturer: Wurth Elektronik; DC Resistance: 74mOhm; Saturation Current: 3.4A; Self Resonant Frequency: 19.5MHz; Type: Performance; Category: Power Inductors; Match Code: WE-PD; ComponentLink1Description: Website Link; ComponentLink1URL: https://www.we-online.com/redexpert/article/7447713150?ad; ComponentLink2Description: Datasheet Link; ComponentLink2URL: https://www.we-online.com/redexpert/spec/7447713150?ad; Mount: Surface Mount; Operating Temperature Max: 150°C; Operating Temperature Min: -40°C; Packaging: Tape and Reel; Case/Size Code: 1030P; Length: 10mm; Width: 10mm; Height: 3mm; DC Resistance Max: 89mOhm; Inductance: 15uH; Rated Current: 2.2A
footprint WE-PD_1030P
simulation model 1030_7447713150_15u
pins: 1, 2

## 7447713151
designator L?, comment 150uH, 0.7A  (value not drawn)
WE-PD SMT Power Inductor, size 1030P, 150uH, 0.7A, 684mOhm; Manufacturer Part Number: 7447713151; Manufacturer: Wurth Elektronik; DC Resistance: 570mOhm; Saturation Current: 1.1A; Self Resonant Frequency: 6.1MHz; Type: Performance; Category: Power Inductors; Match Code: WE-PD; ComponentLink1Description: Website Link; ComponentLink1URL: https://www.we-online.com/redexpert/article/7447713151?ad; ComponentLink2Description: Datasheet Link; ComponentLink2URL: https://www.we-online.com/redexpert/spec/7447713151?ad; Mount: Surface Mount; Operating Temperature Max: 150°C; Operating Temperature Min: -40°C; Packaging: Tape and Reel; Case/Size Code: 1030P; Length: 10mm; Width: 10mm; Height: 3mm; DC Resistance Max: 684mOhm; Inductance: 150uH; Rated Current: 0.7A
footprint WE-PD_1030P
simulation model 1030_7447713151_150u
pins: 1, 2

## 7447713220
designator L?, comment 22uH, 1.7A  (value not drawn)
WE-PD SMT Power Inductor, size 1030P, 22uH, 1.7A, 133mOhm; Manufacturer Part Number: 7447713220; Manufacturer: Wurth Elektronik; DC Resistance: 111mOhm; Saturation Current: 2.7A; Self Resonant Frequency: 17.5MHz; Type: Performance; Category: Power Inductors; Match Code: WE-PD; ComponentLink1Description: Website Link; ComponentLink1URL: https://www.we-online.com/redexpert/article/7447713220?ad; ComponentLink2Description: Datasheet Link; ComponentLink2URL: https://www.we-online.com/redexpert/spec/7447713220?ad; Mount: Surface Mount; Operating Temperature Max: 150°C; Operating Temperature Min: -40°C; Packaging: Tape and Reel; Case/Size Code: 1030P; Length: 10mm; Width: 10mm; Height: 3mm; DC Resistance Max: 133mOhm; Inductance: 22uH; Rated Current: 1.7A
footprint WE-PD_1030P
simulation model 1030_7447713220_22u
pins: 1, 2

## 7447713330
designator L?, comment 33uH, 1.35A  (value not drawn)
WE-PD SMT Power Inductor, size 1030P, 33uH, 1.35A, 204mOhm; Manufacturer Part Number: 7447713330; Manufacturer: Wurth Elektronik; DC Resistance: 170mOhm; Saturation Current: 2.2A; Self Resonant Frequency: 13MHz; Type: Performance; Category: Power Inductors; Match Code: WE-PD; ComponentLink1Description: Website Link; ComponentLink1URL: https://www.we-online.com/redexpert/article/7447713330?ad; ComponentLink2Description: Datasheet Link; ComponentLink2URL: https://www.we-online.com/redexpert/spec/7447713330?ad; Mount: Surface Mount; Operating Temperature Max: 150°C; Operating Temperature Min: -40°C; Packaging: Tape and Reel; Case/Size Code: 1030P; Length: 10mm; Width: 10mm; Height: 3mm; DC Resistance Max: 204mOhm; Inductance: 33uH; Rated Current: 1.35A
footprint WE-PD_1030P
simulation model 1030_7447713330_33u
pins: 1, 2

## 7447713331
designator L?, comment 330uH, 0.48A  (value not drawn)
WE-PD SMT Power Inductor, size 1030P, 330uH, 0.48A, 1500mOhm; Manufacturer Part Number: 7447713331; Manufacturer: Wurth Elektronik; DC Resistance: 1230mOhm; Saturation Current: 0.73A; Self Resonant Frequency: 4.3MHz; Type: Performance; Category: Power Inductors; Match Code: WE-PD; ComponentLink1Description: Website Link; ComponentLink1URL: https://www.we-online.com/redexpert/article/7447713331?ad; ComponentLink2Description: Datasheet Link; ComponentLink2URL: https://www.we-online.com/redexpert/spec/7447713331?ad; Mount: Surface Mount; Operating Temperature Max: 150°C; Operating Temperature Min: -40°C; Packaging: Tape and Reel; Case/Size Code: 1030P; Length: 10mm; Width: 10mm; Height: 3mm; DC Resistance Max: 1500mOhm; Inductance: 330uH; Rated Current: 0.48A
footprint WE-PD_1030P
simulation model 1030_7447713331_330u
pins: 1, 2

## 7447713470
designator L?, comment 47uH, 1.2A  (value not drawn)
WE-PD SMT Power Inductor, size 1030P, 47uH, 1.2A, 248mOhm; Manufacturer Part Number: 7447713470; Manufacturer: Wurth Elektronik; DC Resistance: 207mOhm; Saturation Current: 1.9A; Self Resonant Frequency: 11.4MHz; Type: Performance; Category: Power Inductors; Match Code: WE-PD; ComponentLink1Description: Website Link; ComponentLink1URL: https://www.we-online.com/redexpert/article/7447713470?ad; ComponentLink2Description: Datasheet Link; ComponentLink2URL: https://www.we-online.com/redexpert/spec/7447713470?ad; Mount: Surface Mount; Operating Temperature Max: 150°C; Operating Temperature Min: -40°C; Packaging: Tape and Reel; Case/Size Code: 1030P; Length: 10mm; Width: 10mm; Height: 3mm; DC Resistance Max: 248mOhm; Inductance: 47uH; Rated Current: 1.2A
footprint WE-PD_1030P
simulation model 1030_7447713470_47u
pins: 1, 2

## 7447713471
designator L?, comment 470uH, 0.42A  (value not drawn)
WE-PD SMT Power Inductor, size 1030P, 470uH, 0.42A, 2200mOhm; Manufacturer Part Number: 7447713471; Manufacturer: Wurth Elektronik; DC Resistance: 1850mOhm; Saturation Current: 0.65A; Self Resonant Frequency: 3.4MHz; Type: Performance; Category: Power Inductors; Match Code: WE-PD; ComponentLink1Description: Website Link; ComponentLink1URL: https://www.we-online.com/redexpert/article/7447713471?ad; ComponentLink2Description: Datasheet Link; ComponentLink2URL: https://www.we-online.com/redexpert/spec/7447713471?ad; Mount: Surface Mount; Operating Temperature Max: 150°C; Operating Temperature Min: -40°C; Packaging: Tape and Reel; Case/Size Code: 1030P; Length: 10mm; Width: 10mm; Height: 3mm; DC Resistance Max: 2200mOhm; Inductance: 470uH; Rated Current: 0.42A
footprint WE-PD_1030P
simulation model 1030_7447713471_470u
pins: 1, 2

## 7447713680
designator L?, comment 68uH, 1.1A  (value not drawn)
WE-PD SMT Power Inductor, size 1030P, 68uH, 1.1A, 330mOhm; Manufacturer Part Number: 7447713680; Manufacturer: Wurth Elektronik; DC Resistance: 275mOhm; Saturation Current: 1.6A; Self Resonant Frequency: 9.4MHz; Type: Performance; Category: Power Inductors; Match Code: WE-PD; ComponentLink1Description: Website Link; ComponentLink1URL: https://www.we-online.com/redexpert/article/7447713680?ad; ComponentLink2Description: Datasheet Link; ComponentLink2URL: https://www.we-online.com/redexpert/spec/7447713680?ad; Mount: Surface Mount; Operating Temperature Max: 150°C; Operating Temperature Min: -40°C; Packaging: Tape and Reel; Case/Size Code: 1030P; Length: 10mm; Width: 10mm; Height: 3mm; DC Resistance Max: 330mOhm; Inductance: 68uH; Rated Current: 1.1A
footprint WE-PD_1030P
simulation model 1030_7447713680_68u
pins: 1, 2

## 7447713820
designator L?, comment 82uH, 0.95A  (value not drawn)
WE-PD SMT Power Inductor, size 1030P, 82uH, 0.95A, 419mOhm; Manufacturer Part Number: 7447713820; Manufacturer: Wurth Elektronik; DC Resistance: 349mOhm; Saturation Current: 1.5A; Self Resonant Frequency: 8.8MHz; Type: Performance; Category: Power Inductors; Match Code: WE-PD; ComponentLink1Description: Website Link; ComponentLink1URL: https://www.we-online.com/redexpert/article/7447713820?ad; ComponentLink2Description: Datasheet Link; ComponentLink2URL: https://www.we-online.com/redexpert/spec/7447713820?ad; Mount: Surface Mount; Operating Temperature Max: 150°C; Operating Temperature Min: -40°C; Packaging: Tape and Reel; Case/Size Code: 1030P; Length: 10mm; Width: 10mm; Height: 3mm; DC Resistance Max: 419mOhm; Inductance: 82uH; Rated Current: 0.95A
footprint WE-PD_1030P
simulation model 1030_7447713820_82u
pins: 1, 2